# EAGLE library part VS1002 (library VS10XX)
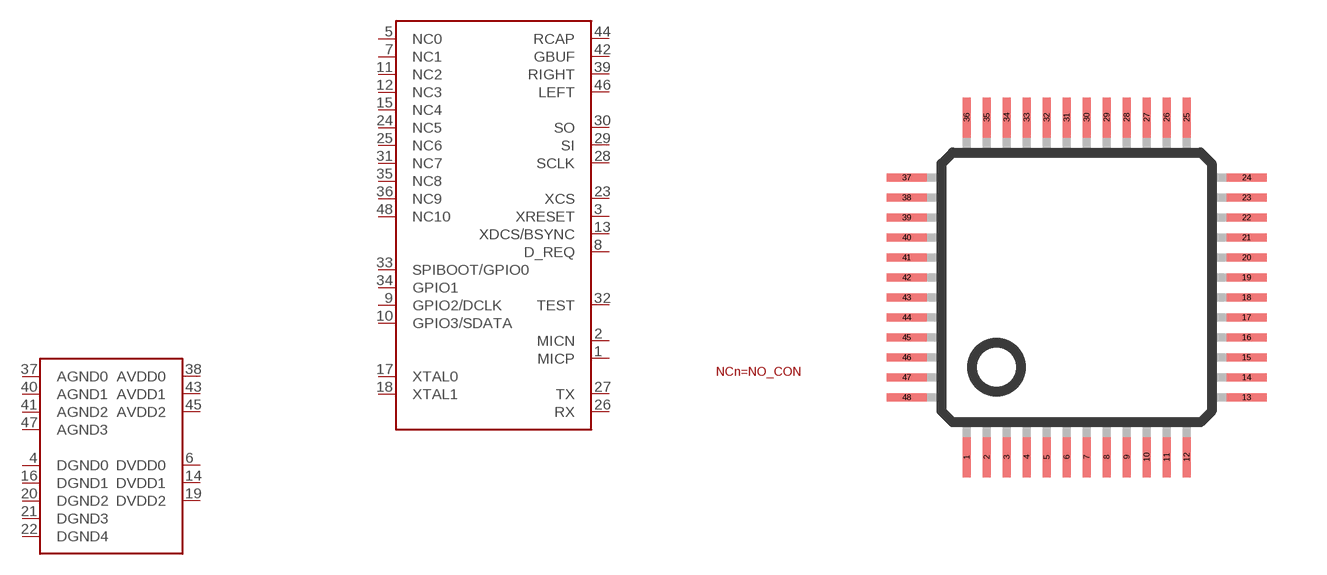
[diagram p0: symbol with the pads of LQFP-48; footprint LQFP-48]

Designator prefix -; gates G$1=VS10XXPWR G$2=VS1002

## VS1002  [LQFP-48]
1  G$2:MICP
2  G$2:MICN
3  G$2:XRESET
4  G$1:DGND0
5  G$2:NC0  nc
6  G$1:DVDD0
7  G$2:NC1  nc
8  G$2:D_REQ
9  G$2:GPIO2/DCLK
10  G$2:GPIO3/SDATA
11  G$2:NC2  nc
12  G$2:NC3  nc
13  G$2:XDCS/BSYNC
14  G$1:DVDD1
15  G$2:NC4  nc
16  G$1:DGND1
17  G$2:XTAL0
18  G$2:XTAL1
19  G$1:DVDD2
20  G$1:DGND2
21  G$1:DGND3
22  G$1:DGND4
23  G$2:XCS
24  G$2:NC5  nc
25  G$2:NC6  nc
26  G$2:RX
27  G$2:TX
28  G$2:SCLK
29  G$2:SI
30  G$2:SO
31  G$2:NC7  nc
32  G$2:TEST
33  G$2:SPIBOOT/GPIO0
34  G$2:GPIO1
35  G$2:NC8  nc
36  G$2:NC9  nc
37  G$1:AGND0
38  G$1:AVDD0
39  G$2:RIGHT
40  G$1:AGND1
41  G$1:AGND2
42  G$2:GBUF
43  G$1:AVDD1
44  G$2:RCAP
45  G$1:AVDD2
46  G$2:LEFT
47  G$1:AGND3
48  G$2:NC10  nc

## Footprint LQFP-48 (pad centres in mm)
smd 0.2 x 1: 1 -2.75,-4.25; 2 -2.25,-4.25; 3 -1.75,-4.25; 4 -1.25,-4.25; 5 -0.75,-4.25; 6 -0.25,-4.25; 7 0.25,-4.25; 8 0.75,-4.25; 9 1.25,-4.25; 10 1.75,-4.25; 11 2.25,-4.25; 12 2.75,-4.25; 25 2.75,4.25; 26 2.25,4.25; 27 1.75,4.25; 28 1.25,4.25; 29 0.75,4.25; 30 0.25,4.25; 31 -0.25,4.25; 32 -0.75,4.25; 33 -1.25,4.25; 34 -1.75,4.25; 35 -2.25,4.25; 36 -2.75,4.25
smd 1 x 0.2: 13 4.25,-2.75; 14 4.25,-2.25; 15 4.25,-1.75; 16 4.25,-1.25; 17 4.25,-0.75; 18 4.25,-0.25; 19 4.25,0.25; 20 4.25,0.75; 21 4.25,1.25; 22 4.25,1.75; 23 4.25,2.25; 24 4.25,2.75; 37 -4.25,2.75; 38 -4.25,2.25; 39 -4.25,1.75; 40 -4.25,1.25; 41 -4.25,0.75; 42 -4.25,0.25; 43 -4.25,-0.25; 44 -4.25,-0.75; 45 -4.25,-1.25; 46 -4.25,-1.75; 47 -4.25,-2.25; 48 -4.25,-2.75